# Altium schematic symbol library Colour-Sensor.SchLib: 22 symbols
Pins are listed as number, name and electrical type; pins without a type are passive.

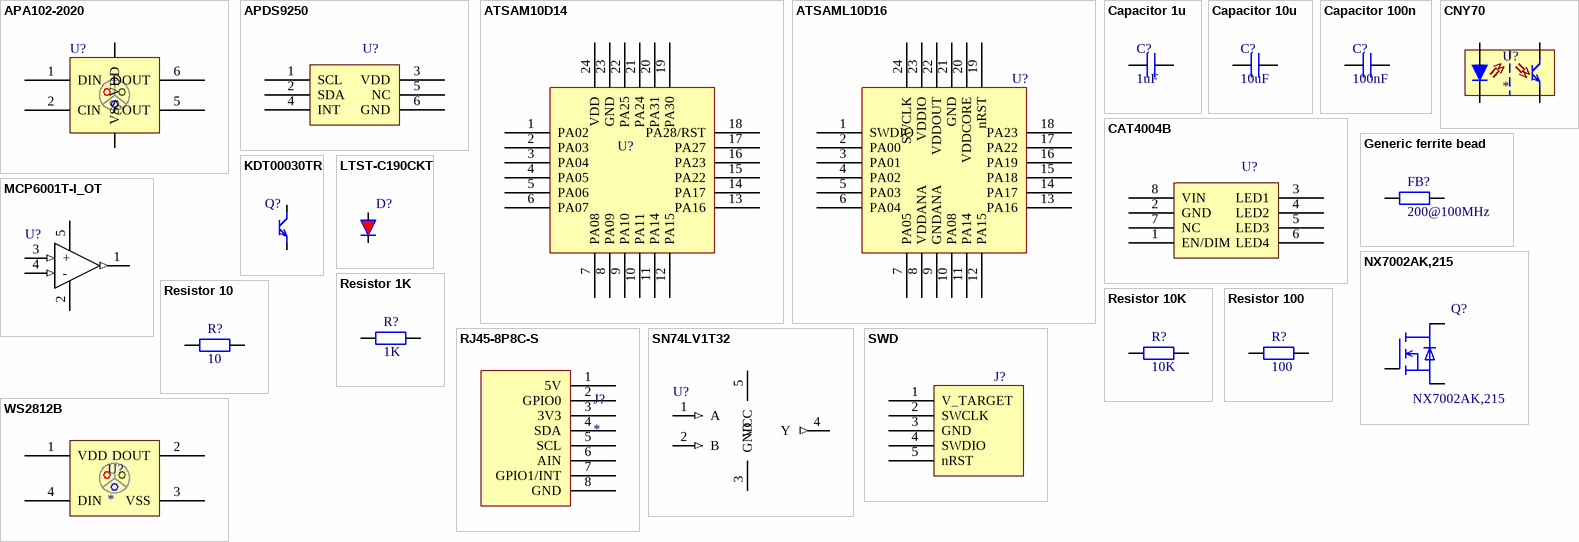
[diagram p0: symbols APA102-2020 to WS2812B]

## APA102-2020
designator U?  (value not drawn)
RGB LED
footprint APA102
pins: 1 DIN, 2 CIN, 3 VSS, 4 VDD, 5 COUT, 6 DOUT

## APDS9250
designator U?  (value not drawn)
RGB Color sensor
footprint SON65P200X75-6N (SON, 6-Leads, Body 2,00x2,00mm, Pitch 0,65mm, IPC Medium Density)
pins: 1 SCL, 2 SDA, 3 VDD, 4 INT, 5 NC, 6 GND

## ATSAM10D14
designator U?  (value not drawn)
48MHz 32bit ARM MCU; Flash size: 16kB; RAM size: 4kB
pins: 1 PA02, 2 PA03, 3 PA04, 4 PA05, 5 PA06, 6 PA07, 7 PA08, 8 PA09, 9 PA10, 10 PA11, 11 PA14, 12 PA15, 13 PA16, 14 PA17, 15 PA22, 16 PA23, 17 PA27, 18 PA28/RST, 19 PA30, 20 PA31, 21 PA24, 22 PA25, 23 GND, 24 VDD

## ATSAML10D16
designator U?  (value not drawn)
48MHz 32bit ARM MCU; Flash size: 16kB; RAM size: 4kB
footprint QFN50P400X400X90_HS-25N (QFN, 24-Leads, Body 4,00x4,00mm, Pitch 0,50mm, Thermal Pad 2,60x2,60mm, IPC Medium Density)
pins: 1 SWDIO, 2 PA00, 3 PA01, 4 PA02, 5 PA03, 6 PA04, 7 PA05, 8 VDDANA, 9 GNDANA, 10 PA08, 11 PA14, 12 PA15, 13 PA16, 14 PA17, 15 PA18, 16 PA19, 17 PA22, 18 PA23, 19 nRST, 20 VDDCORE, 21 GND, 22 VDDOUT, 23 VDDIO, 24 SWCLK

## Capacitor 1u
designator C?, comment 1uF
Value: 1uF
footprint CAP1608X06M (Chip Capacitor 2-Leads, Body 1,60x0,80mm, IPC Low Density)
pins: 1, 2

## Capacitor 10u
designator C?, comment 10uF
Value: 10uF
footprint CAP1608X06M (Chip Capacitor 2-Leads, Body 1,60x0,80mm, IPC Low Density)
pins: 1, 2

## Capacitor 100n
designator C?, comment 100nF
Value: 100nF
footprint CAP1608X06M (Chip Capacitor 2-Leads, Body 1,60x0,80mm, IPC Low Density)
pins: 1, 2

## CAT4004B
designator U?  (value not drawn)
Constant current, dimmable LED driver
footprint SON50P200X55_HS-9N (SON, 8-Leads, Body 2,00x2,00mm, Pitch 0,50mm, Thermal Pad 1,60x0,59mm, IPC Medium Density)
pins: 1 EN/DIM, 2 GND, 3 LED1, 4 LED2, 5 LED3, 6 LED4, 7 NC, 8 VIN

## CNY70
designator U?
Reflective optical sensor; Wavelength: 950nm
footprint CNY70; pin to pad A>4 C>2 E>3 K>1
pins: A, C, E, K

## Generic ferrite bead
designator FB?, comment 200@100MHz
Value: 200@100MHz
footprint RESC1608X06M (Chip Resistor, 2-Leads, Body 1,60x0,80mm, IPC Low Density)
pins: 1, 2

## KDT00030TR
designator Q?  (value not drawn)
Phototransistor; Manufacturer_Name: ON Semiconductor; Manufacturer_Part_Number: KDT00030TR; Datasheet Link: https://www.onsemi.com/pub/Collateral/KDT00030-D.PDF; Height: 0.6mm
footprint KDT00030TR
pins: 1 C, 2 E

## LTST-C190CKT
designator D?  (value not drawn)
LED; Manufacturer_Name: Lite-On; Manufacturer_Part_Number: LTST-C190CKT; Datasheet Link: https://componentsearchengine.com/Datasheets/1/LTST-C190CKT.pdf; Height: 0.9mm; Mouser2 Part Number: 859-LTST-C190CKT; Mouser2 Price/Stock: https://www.mouser.com/Search/Refine.aspx?Keyword=859-LTST-C190CKT
footprint LEDC1608X90N
pins: 1 K, 2 A

## MCP6001T-I_OT
designator U?, comment OpAmp  (value not drawn)
Integrated Circuit; Manufacturer_Name: Microchip; Manufacturer_Part_Number: MCP6001T-I/OT; Datasheet Link: https://componentsearchengine.com/Datasheets/1/MCP6001T-I_OT.pdf; Height: 1.45mm; Mouser2 Part Number: 579-MCP6001T-I/OT; Mouser2 Price/Stock: https://www.mouser.com/Search/Refine.aspx?Keyword=579-MCP6001T-I%2FOT
footprint SOT95P270X145-5N
pins: 1 VOUT (out), 2 VSS (power), 3 + (in), 4 - (in), 5 VDD (power)

## NX7002AK,215
designator Q?
Part Description: MOSFET, N-CH, 60V, 190mA, -55/+150, TO-236AB; Manufacturer: Nexperia; Part Number: NX7002AK,215; Device: NX7002AK,215; Footprint: TO-236AB; Manufacturer Part Number: NX7002AK,215; Mounted: Yes; SMD: Yes; ComponentHeight: 1.1mm; Author: ChAl
footprint SOT-23-3
pins: 1 G, 2 S, 3 D

## Resistor 1K
designator R?, comment 1K
Value: 1K
footprint RESC1608X06M (Chip Resistor, 2-Leads, Body 1,60x0,80mm, IPC Low Density)
pins: 1, 2

## Resistor 10
designator R?, comment 10
Value: 10
footprint RESC1608X06M (Chip Resistor, 2-Leads, Body 1,60x0,80mm, IPC Low Density)
pins: 1, 2

## Resistor 10K
designator R?, comment 10K
Value: 10K
footprint RESC1608X06M (Chip Resistor, 2-Leads, Body 1,60x0,80mm, IPC Low Density)
pins: 1, 2

## Resistor 100
designator R?, comment 100
Value: 100
footprint RESC1608X06M (Chip Resistor, 2-Leads, Body 1,60x0,80mm, IPC Low Density)
pins: 1, 2

## RJ45-8P8C-S
designator J?
Datasheet: /Robotics%20Platform/Datasheets/Connectors/5721-8P8C-全塑有耳.pdf
footprint RJ45-8P8C
pins: 1 5V, 2 GPIO0, 3 3V3, 4 SDA, 5 SCL, 6 AIN, 7 GPIO1/INT, 8 GND

## SN74LV1T32
designator U?, comment OR gate  (value not drawn)
Manufacturer_Name: Texas Instruments; Manufacturer_Part_Number: SN74LV1T32DCKR; Datasheet Link: http://www.ti.com/lit/ds/symlink/sn74lv1t32.pdf; Mouser2 Price/Stock: https://hu.mouser.com/Search/Refine?Keyword=SN74LV1T32DCKR; Mouser code: 595-SN74LV1T32DCKR
footprint SOT95P270X145-5N
pins: 1 A (in), 2 B (in), 3 GND (power), 4 Y (out), 5 VCC (power)

## SWD
designator J?  (value not drawn)
footprint Sullins_GRPB051VWVN-RC
pins: 1 V_TARGET, 2 SWCLK, 3 GND, 4 SWDIO, 5 nRST

## WS2812B
designator U?
RGB LED
footprint TONGJIA_TJ-S5050RGBICSY62-A6
pins: 1 VDD, 2 DOUT, 3 VSS, 4 DIN